# EAGLE library part CON_BUSPIRATE (library untitled)
PIN HEADER
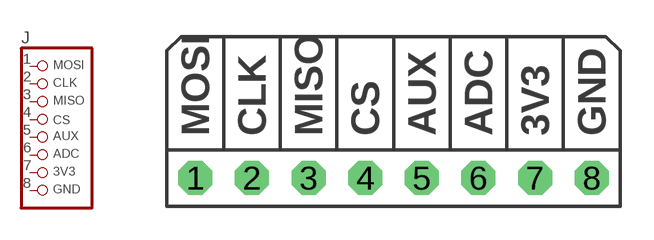
[diagram p3: symbol with the pads of HDR-BUSPIRATE; footprint HDR-BUSPIRATE]

Designator prefix J

## CON_BUSPIRATE  [HDR-BUSPIRATE]
1  1  pas
2  2  pas
3  3  pas
4  4  pas
5  5  pas
6  6  pas
7  7  pas
8  8  pas

## Footprint HDR-BUSPIRATE (pad centres in mm)
PIN HEADER
drill 1.016 octagon: 1 -8.89,0; 2 -6.35,0; 3 -3.81,0; 4 -1.27,0; 5 1.27,0; 6 3.81,0; 7 6.35,0; 8 8.89,0